# Altium footprint library ROM.PcbLib: 1 footprints
Each footprint in its own frame and in the unit in brackets; x right, y up, seen from the top. Pads: shape width x height; smd on the part's side, far side on the other; paste and mask are expansions set on the pad; w line width, h text height; cw(c..) or ccw(c..) is an arc to the next point about the centre after c.
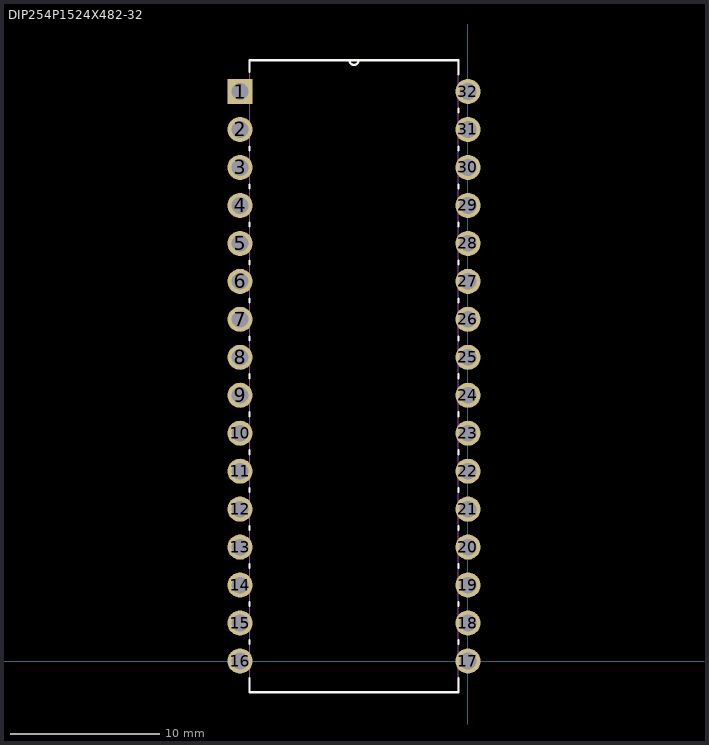
[diagram p0: the footprint, top view; thin cyan lines are the x and y axes]

## DIP254P1524X482-32 [mil]
pads (32):
  rect 66x66 hole 44: 1(-600,1500)
  round 66 hole 44: 2(-600,1400) 3(-600,1300) 4(-600,1200) 5(-600,1100) 6(-600,1000) 7(-600,900) 8(-600,800) 9(-600,700) 10(-600,600) 11(-600,500) 12(-600,400) 13(-600,300) 14(-600,200) 15(-600,100) 16(-600,0) 17(0,0) 18(0,100) 19(0,200) 20(0,300) 21(0,400) 22(0,500) 23(0,600) 24(0,700) 25(0,800) 26(0,900) 27(0,1000) 28(0,1100) 29(0,1200) 30(0,1300) 31(0,1400) 32(0,1500)
Top Overlay:
  lines w6: -575,-45 -575,-82 -25,-82 -25,-45 ; -575,45 -575,55 ; -575,145 -575,155 ; -575,245 -575,255 ; -575,345 -575,355 ; -575,445 -575,455 ; -575,545 -575,555 ; -575,645 -575,655 ; -575,745 -575,755 ; -575,845 -575,855 ; -575,945 -575,955 ; -575,1045 -575,1055 ; -575,1145 -575,1155 ; -575,1245 -575,1255 ; -575,1345 -575,1355 ; -575,1552 -575,1582 -312,1582 ; -25,45 -25,55 ; -25,145 -25,155 ; -25,245 -25,255 ; -25,345 -25,355 ; -25,445 -25,455 ; -25,545 -25,555 ; -25,645 -25,655 ; -25,745 -25,755 ; -25,845 -25,855 ; -25,945 -25,955 ; -25,1045 -25,1055 ; -25,1145 -25,1155 ; -25,1245 -25,1255 ; -25,1345 -25,1355 ; -25,1445 -25,1455 ; -25,1545 -25,1582 -288,1582 ; -312,1582 ccw(c-300,1582) -288,1582 ; -312,1582 -288,1582
Mechanical 13:
  lines w0: -312,1582 ccw(c-300,1582) -288,1582 ; -312,1582 -575,1582 -575,-82 -25,-82 -25,1582 -288,1582 ; -312,1582 -288,1582 ; -622,-22 -575,-22 -575,22 -622,22 -622,-22 ; -622,78 -575,78 -575,122 -622,122 -622,78 ; -622,178 -575,178 -575,222 -622,222 -622,178 ; -622,278 -575,278 -575,322 -622,322 -622,278 ; -622,378 -575,378 -575,422 -622,422 -622,378 ; -622,478 -575,478 -575,522 -622,522 -622,478 ; -622,578 -575,578 -575,622 -622,622 -622,578 ; -622,678 -575,678 -575,722 -622,722 -622,678 ; -622,778 -575,778 -575,822 -622,822 -622,778 ; -622,878 -575,878 -575,922 -622,922 -622,878 ; -622,978 -575,978 -575,1022 -622,1022 -622,978 ; -622,1078 -575,1078 -575,1122 -622,1122 -622,1078 ; -622,1178 -575,1178 -575,1222 -622,1222 -622,1178 ; -622,1278 -575,1278 -575,1322 -622,1322 -622,1278 ; -622,1378 -575,1378 -575,1422 -622,1422 -622,1378 ; -622,1478 -575,1478 -575,1522 -622,1522 -622,1478 ; -25,-22 22,-22 22,22 -25,22 -25,-22 ; -25,78 22,78 22,122 -25,122 -25,78 ; -25,178 22,178 22,222 -25,222 -25,178 ; -25,278 22,278 22,322 -25,322 -25,278 ; -25,378 22,378 22,422 -25,422 -25,378 ; -25,478 22,478 22,522 -25,522 -25,478 ; -25,578 22,578 22,622 -25,622 -25,578 ; -25,678 22,678 22,722 -25,722 -25,678 ; -25,778 22,778 22,822 -25,822 -25,778 ; -25,878 22,878 22,922 -25,922 -25,878 ; -25,978 22,978 22,1022 -25,1022 -25,978 ; -25,1078 22,1078 22,1122 -25,1122 -25,1078 ; -25,1178 22,1178 22,1222 -25,1222 -25,1178 ; -25,1278 22,1278 22,1322 -25,1322 -25,1278 ; -25,1378 22,1378 22,1422 -25,1422 -25,1378 ; -25,1478 22,1478 22,1522 -25,1522 -25,1478
3D body "dip32_socket_.stp": height 180, standoff -138.9, extent -646.18,-46.07 50.67,1553.93
3D body "DIP-32P-M01.step": height 336.85, standoff 21.89, extent -604.92,-45.28 4.92,1545.28